# EAGLE library part LMC555CMM/NOPB (library ruark2)
555 Type, Timer/Oscillator (Single) IC 2.1MHz 8-SOIC
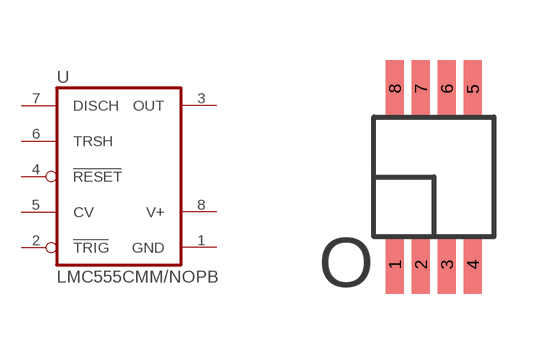
[diagram p199: symbol with the pads of 8-VSSOP; footprint 8-VSSOP]

Designator prefix U

## LMC555CMM/NOPB (PARTNO: LMC555CMM/NOPBCT-ND)  [8-VSSOP]
1  GND  pwr
2  TRIG
3  OUT  out
4  RESET  in
5  CV  pas
6  TRSH  in
7  DISCH  in
8  V+  pwr

## Footprint 8-VSSOP (pad centres in mm)
smd 0.45 x 1.45: 1 -0.975,-2.2; 2 -0.325,-2.2; 3 0.325,-2.2; 4 0.975,-2.2; 5 0.975,2.2; 6 0.325,2.2; 7 -0.325,2.2; 8 -0.975,2.2